# Altium schematic symbol library Schlib1.SchLib: 22 symbols
Pins are listed as number, name and electrical type; pins without a type are passive.

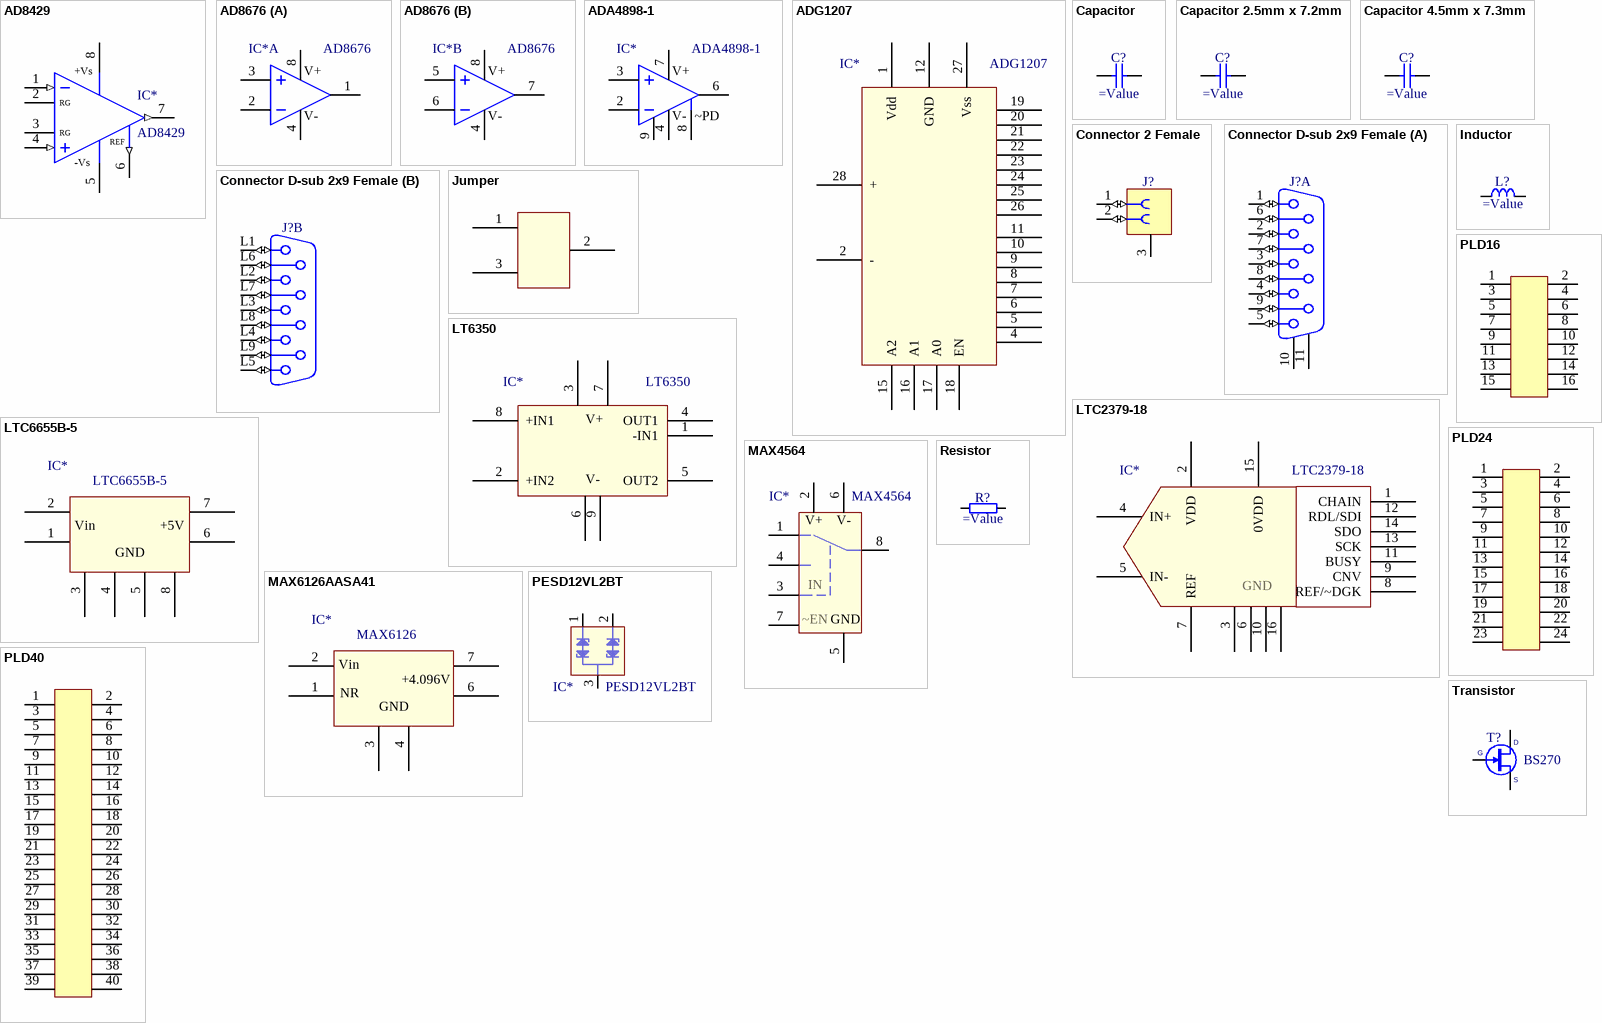
[diagram p0: symbols AD8429 to Transistor]

## AD8429
designator IC*
1 nV/sqrt Hz Low Noise Instrumentation Amplifier
footprint SOIC127P600X175-8N (SOIC 8, Pitch 1.27mm - Body 4x5mm, IPC Medium Density)
pins: 1 -IN (in), 2 RG, 3 RG, 4 +IN (in), 5 -Vs (power), 6 REF (out), 7 Vout (out), 8 +Vs (power)

## AD8676
designator IC*
Dual Op Amp
footprint SOIC127P600X175-8N (SOIC 8, Pitch 1.27mm - Body 4x5mm, IPC Medium Density)
part A pins: 1 OUT_A, 2 -IN_A, 3 +IN_A, 4 V-, 8 V+
part B pins: 4 V-, 5 +IN_B, 6 -IN_B, 7 OUT_B, 8 V+

## ADA4898-1
designator IC*
Op amp
footprint SOIC127P600X175-9N-S229 (SOIC 8, 1.27mm Pitch; 8 pin, 3.90mm W X 4.90mm L X 1.75mm H body, (w/thermal tab 2.29mm X 2.29mm), IPC Medium Density)
pins: 2 IN-, 3 IN+, 4 V-, 6 OUT, 7 V+, 8 ~PD, 9 EXPOSED PAD

## ADG1207
designator IC*
8-channel multiplexer
footprint SOP65P640X120-28N (SOP, 0.65mm Pitch; 28 Pin, 4.40mm W X 9.70mm L X 1.20mm H body, IPC Medium Density)
pins: 1 Vdd, 2 -, 4, 5, 6, 7, 8, 9, 10, 11, 12 GND, 15 A2, 16 A1, 17 A0, 18 EN, 19, 20, 21, 22, 23, 24, 25, 26, 27 Vss, 28 +

## Capacitor
designator C?
footprint 0603 (Chip Resistor, EIA 0603, Metric 1608, Body 1.6x0.8mm, IPC Medium Density)
footprint 0805 (Chip Resistor, EIA 0805, Metric 2012, Body 2.0x1.25mm, IPC Medium Density)
pins: 1, 2

## Capacitor 2.5mm x 7.2mm
designator C?
footprint CAPR500-250X720X650 (Capacitor Radial, Pin spacing 5.0mm - Body With 2.5mm X Body Length 7.2mm X Body Height 6.5mm)
pins: 1, 2

## Capacitor 4.5mm x 7.3mm
designator C?
footprint CAPR500-450X730X950 (Capacitor Radial, Pin spacing 5.0mm - Body With 4.5mm X Body Length 7.3mm X Body Height 9.5mm)
pins: 1, 2

## Connector 2 Female
designator J?
Connector 2 Female
footprint LEMO_EPG.0B.302.HLN (Elbow Receptacle (90°) With 2 Female Contacts and Key (G) For PCB)
pins: 1 (io), 2 (io), 3
1 alternate drawing of the same symbol

## Connector D-sub 2x9 Female
designator J?
Connector D-sub 2x9 Female
footprint TYCO_5747844-5 (Right Angle 9 Female Contacts D-SUB Connector With PCB Mount Retention , Grounding Straps, and Fixed UNC 4-40 Female Screwlocks)
part A pins: 1 U1 (io), 2 U2 (io), 3 U3 (io), 4 U4 (io), 5 U5 (io), 6 U6 (io), 7 U7 (io), 8 U8 (io), 9 U9 (io), 10, 11
part B pins: L1 (io), L2 (io), L3 (io), L4 (io), L5 (io), L6 (io), L7 (io), L8 (io), L9 (io)

## Inductor
designator L?
Inductor
footprint INDAD1524-920X400 (Inductor, Axial Diameter, Pad spacing 15.24 mm - Body Lengh 9.2mm X Body Diameter 4mm)
pins: 1, 2

## Jumper
designator *  (value not drawn)
footprint Jumper (Jumper, SMD)
pins: 1, 2, 3

## LT6350
designator IC*
ADC driver
footprint SON50P300X300X80-9N-R175X248 (SON, (DFN) 0.50mm,pitch; 8 pin,3.00mm W X 3.00mm L X 0.80mm H body (w/thermal tab 1.75 X2.48mm), IPC Medium Density)
pins: 1 -IN1, 2 +IN2, 3 V+, 4 OUT1, 5 OUT2, 6 V-, 7, 8 +IN1, 9 V-

## LTC2379-18
designator IC*
ADC
footprint SOP50P490X110-16N (SOP, 0.50mm Pitch; 16 Pin, 3.00mm W X 4.039mm L X 1.10mm H Body, IPC Medium Density)
pins: 1 CHAIN, 2 VDD, 3, 4 IN+, 5 IN-, 6, 7 REF, 8 REF/~DGK, 9 CNV, 10, 11 BUSY, 12 RDL/SDI, 13 SCK, 14 SDO, 15 0VDD, 16
text: GND

## LTC6655B-5
designator IC*
Reference, 5 V
footprint SOP65P488X110-8N (SOP, 8-Leads, Body 3x3mm (max), Pitch 0.65mm, IPC Medium Density)
pins: 1, 2, 3, 4, 5, 6, 7, 8
text: Vin; +5V; GND

## MAX4564
designator IC*
Switch
footprint SOT65P280X100-8N (SOT, 0.65mm pitch; 8 pin, 1.625mm W X 2.90mm L X 1.00mm H body, IPC Medium Density)
pins: 1 NC, 2 V+, 3 IN, 4 NO, 5 GND, 6 V-, 7 ~EN, 8 COM

## MAX6126AASA41
designator IC*, comment MAX6126
Reference, 4.096 V
footprint SOIC127P600X175-8N (SOIC 8, Pitch 1.27mm - Body 4x5mm, IPC Medium Density)
pins: 1, 2, 3, 4, 6, 7
text: Vin; +4.096V; NR; GND

## PESD12VL2BT
designator IC*
footprint SOT95P280X115-3N (SOT23, 0.95mm, pitch;3 pin,1.55mm W X 2.95mm L X 1.15mm H body, IPC Medium Density)
pins: 1 C1, 2 C2, 3 double cathode

## PLD16
designator *  (value not drawn)
footprint COMATEL_389.0358.1.16.400 (16 Contacts - Pitch 2.54mm - Dual Row Straight Strip Header - Insulator 1.7mm)
pins: 1, 2, 3 4, 4, 5, 6, 7, 8, 9, 10, 11, 12, 13, 14, 15, 16

## PLD24
designator *  (value not drawn)
footprint COMATEL_389.0358.1.24.400 (24 Contacts - Pitch 2.54mm - Dual Row Straight Strip Header - Insulator 1.7mm)
pins: 1, 2, 3 4, 4, 5, 6, 7, 8, 9, 10, 11, 12, 13, 14, 15, 16, 17, 18, 19, 20, 21, 22, 23, 24

## PLD40
designator *  (value not drawn)
footprint SAMTEC_MTLW-120-07-L-D-250 (40 Contacts - Pitch 2.54mm - Dual Row Through Mount Straight Header (Post Lead = 6.35mm, Tail Lead 3.05mm, Insulator 1.52mm))
footprint SAMTEC_MTLW-120-07-L-D-250 (40 Contacts - Pitch 2.54mm - Dual Row Through Mount Straight Header (Post Lead = 6.35mm, Tail Lead 3.05mm, Insulator 1.52mm))
pins: 1, 2, 3, 4, 5, 6, 7, 8, 9, 10, 11, 12, 13, 14, 15, 16, 17, 18, 19, 20, 21, 22, 23, 24, 25, 26, 27, 28, 29, 30, 31, 32, 33, 34, 35, 36, 37, 38, 39, 40

## Resistor
designator R?
footprint 0603 (Chip Resistor, EIA 0603, Metric 1608, Body 1.6x0.8mm, IPC Medium Density)
footprint 0805 (Chip Resistor, EIA 0805, Metric 2012, Body 2.0x1.25mm, IPC Medium Density)
footprint 1206 (Chip Resistor, EIA 1206, Metric 3216, Body 3.2x1.6mm, IPC Medium Density)
pins: 1, 2

## Transistor
designator T?, comment BS270
footprint TO-92AA-P127 (TO-92 (TO-226),  Pitch 1.27mm, Flat Index, 3 In-Line, Axial Leads, Body Dia. 5.3mm, Leads Dia. 0.5mm (max))
pins: 1 D, 2 G, 3 S